# Altium schematic symbol library CL10A106MQ8NNNC.SchLib: 1 symbol
Pins are listed as number, name and electrical type; pins without a type are passive.

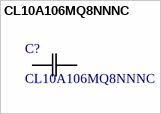
[diagram p0: symbol CL10A106MQ8NNNC]

## CL10A106MQ8NNNC
designator C?
Description; Manufacturer_Name: Samsung; Copyright: Copyright (C) 2026 Ultra Librarian. All rights reserved.; Manufacturer_Part_Number: CL10A106MQ8NNNC
footprint CAP_CL10_SAM
pins: 1, 2